# Altium schematic symbol library SCH - POWER - MODULE - PFC - UCC28056.SCHLIB: 1 symbol
Pins are listed as number, name and electrical type; pins without a type are passive.

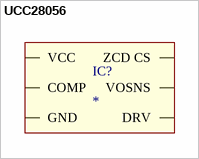
[diagram p0: symbol UCC28056]

## UCC28056
designator IC?
pins: 1 VOSNS, 2 ZCD CS, 3 VCC, 4 GND, 5 DRV, 6 COMP